# Altium footprint library SS12D00G3_2020-09-11_13-28-16.PcbLib: 1 footprints
Each footprint in its own frame and in the unit in brackets; x right, y up, seen from the top. Pads: shape width x height; smd on the part's side, far side on the other; paste and mask are expansions set on the pad; w line width, h text height; cw(c..) or ccw(c..) is an arc to the next point about the centre after c.
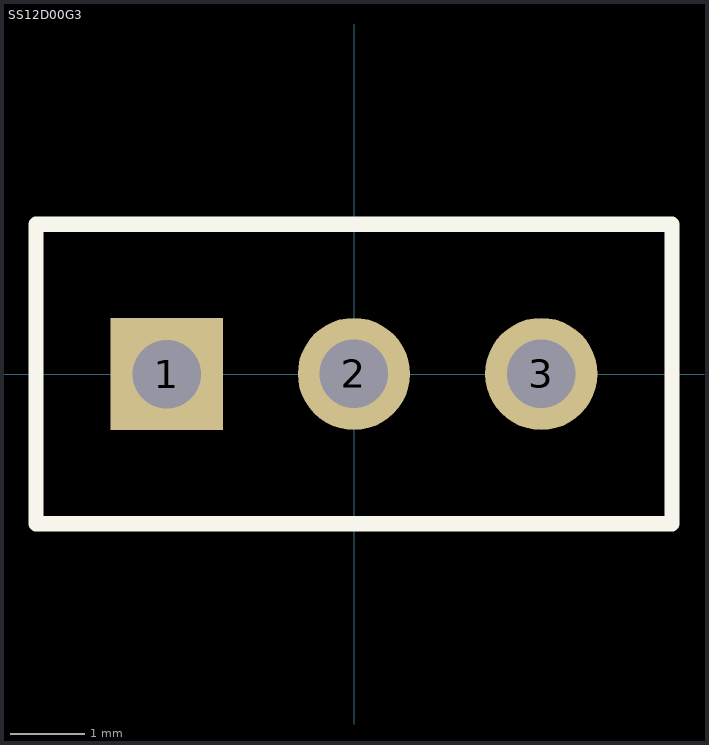
[diagram p0: the footprint, top view; thin cyan lines are the x and y axes]

## SS12D00G3 [mil]
pads (3):
  rect 59x59 hole 36: 1(-98.42,-0.01)
  round 59 hole 36: 2(-0.04,0.04) 3(98.46,0.04)
Top Overlay:
  lines w7.9: -167.32,-78.75 -167.32,78.75 167.32,78.75 167.32,-78.75 -167.32,-78.75